# Altium footprint library ControlCircuit_PCB_Library_V1_0.PcbLib: 207 footprints (part 2 of 13)
Each footprint in its own frame and in the unit in brackets; x right, y up, seen from the top. Pads: shape width x height; smd on the part's side, far side on the other; paste and mask are expansions set on the pad; w line width, h text height; cw(c..) or ccw(c..) is an arc to the next point about the centre after c.
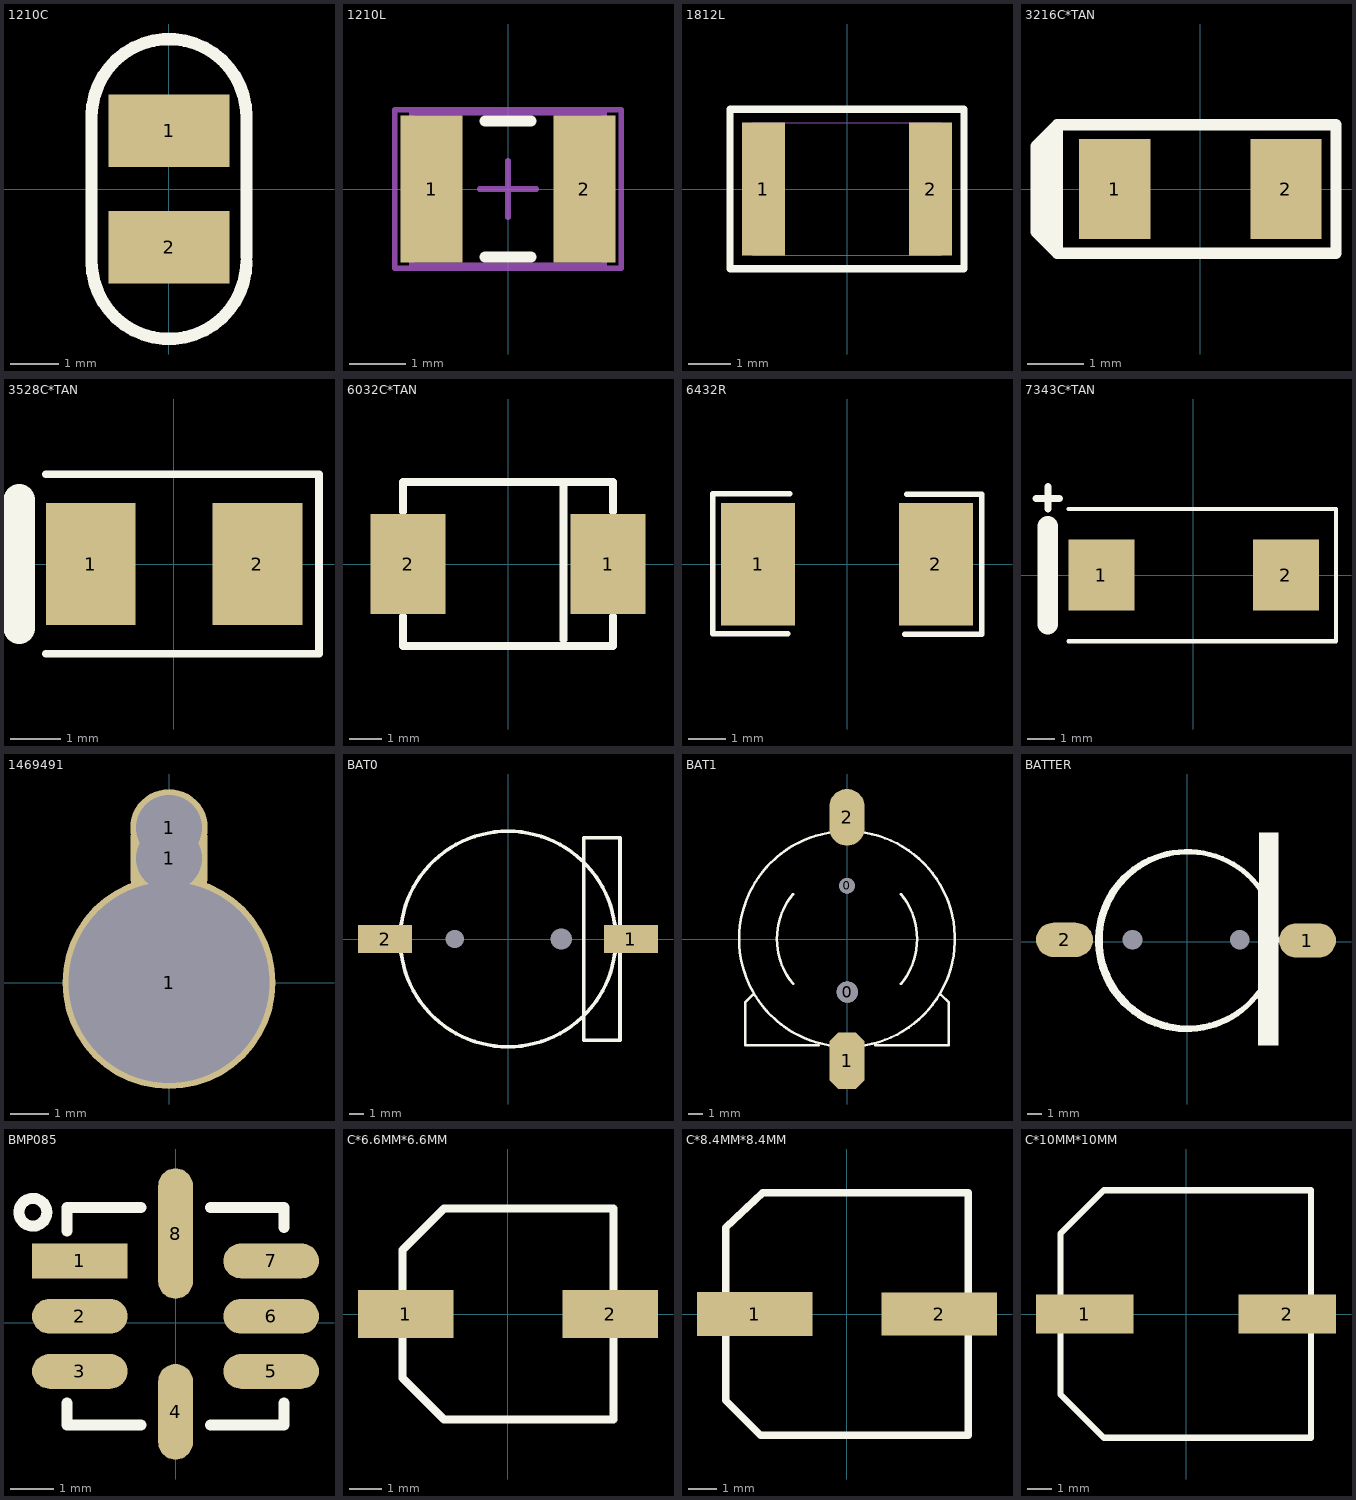
[diagram p1: the footprints below, top view; thin cyan lines are the x and y axes]

## 1210C [mm]
pads (2):
  rect 2.5x1.5 smd: 1(0,1.2) 2(0,-1.2)
Top Overlay:
  lines w0.254: -1.6,1.5 cw(c0,1.5) 1.6,1.5 1.6,-1.4 ; -1.6,1.6 -1.6,-1.5 ccw(c0,-1.5) 1.6,-1.5

## 1210L [mm]
height 2
pads (2):
  rect 1.1x2.6 smd: 1(-1.35,0) 2(1.35,0)
Top Overlay:
  lines w0.2: -0.4,-1.2 0.4,-1.2 ; -0.4,1.2 0.4,1.2
Mechanical 13:
  lines w0.1: -1.7,-1.35 1.7,-1.35 1.7,1.35 -1.7,1.35 -1.7,-1.35
Mechanical 15:
  lines w0.1: -0.5,0 0.5,0 ; 0,-0.5 0,0.5 ; -2,-1.4 2,-1.4 2,1.4 -2,1.4 -2,-1.4
3D body: height 1.5, standoff 0, extent -1.7,-1.35 1.7,1.35

## 1812L [mil]
pads (2):
  rect 40x125 smd: 1(-78.5,0)
  rect 40x125 smd mask+2.76: 2(78.5,0)
Top Overlay:
  lines w7: -110,-75 -110,75 110,75 110,-75 -110,-75
Mechanical 16:
  lines w1: -88.5,-62.5 88.5,-62.5 88.5,62.5 -88.5,62.5 -88.5,-62.5
3D body "1812-vrt.stp": height 125.98, standoff 0, extent -88.58,-63 88.58,62.98
3D body "3_175-1_016-1812.stp": height 0.79, standoff 0, extent -99,-62.5 -59,62.5
3D body "3_175-1_016-1812.stp": height 0.79, standoff 0, extent 58.5,-62.5 98.5,62.5

## 3216C*TAN [mil]
pads (2):
  rect 50x70 smd: 1(-60,0) 2(60,0)
Top Overlay:
  lines w8: -100,-45 95,-45 95,45 -100,45 ; -100,-45 -115,-30 -115,30 -100,45 ; -100,-45 -100,45
  lines w10: -110,-30 -110,30 ; -105,-35 -105,35

## 3528C*TAN [mil]
pads (2):
  rect 70x95 smd: 1(-64.63,0.24) 2(65.37,0.24)
Top Overlay:
  lines w6: -99.63,-69.76 113.37,-69.76 113.37,70.24 -99.63,70.24
  lines w25: -120.63,-49.76 -120.63,50.24

## 6032C*TAN [mil]
pads (2):
  rect 90x120 smd: 1(120,0) 2(-120,0)
Top Overlay:
  lines w10: -125.98,-62.99 -125.98,-98.43 125.98,-98.43 125.98,-62.99 ; -125.98,62.99 -125.98,98.43 125.98,98.43 125.98,62.99 ; 66.54,-90.55 66.54,94.49

## 6432R [mm] "功率电阻"
height 0.6
pads (2):
  rect 2x3.3 smd: 1(-2.4,0) 2(2.4,0)
Top Overlay:
  lines w0.152: -1.597,-1.88 -3.629,-1.88 -3.629,1.898 -1.546,1.898 ; 1.558,-1.887 3.641,-1.887 3.641,1.89 1.609,1.89

## 7343C*TAN [mil]
pads (2):
  rect 95x102 smd: 1(-132.13,0) 2(132.87,0)
Top Overlay:
  lines w6: -179.13,-95 204.87,-95 204.87,95 -179.13,95
  lines w10: -226,110 -192,110 ; -209,95 -209,127
  lines w30: -209.13,-70 -209.13,70

## 1469491 [mm]
pads (3):
  round 5.5 hole 5.2 mask+0.102: 1(0,0.003)
  rrect50% 2x2 hole 1.7 square mask+0.102: 1(0,3.216)
  round 2 hole 1.7 mask+0.102: 1(0,4.003)

## BAT0 [mm]
pads (4):
  rect 3.81x2 smd: 1(8.636,0) 2(-8.636,0)
  round 0 hole 1.5 unplated: 3(3.75,0)
  round 0 hole 1.3 unplated: 4(-3.75,0)
Top Overlay:
  circle w0.254: c0,0 r7.578
  lines w0.254: 5.334,-7.112 5.334,7.112 7.874,7.112 7.874,-7.112 5.334,-7.112

## BAT1 [mm]
pads (4):
  round 1.1 hole 1.1 unplated: 0(-0.012,3.75)
  round 1.5 hole 1.5 unplated: 0(0.012,-3.75)
  oct 2.5x4 smd: 1(-0.012,-8.6)
  oval 2.5x4 smd: 2(-0.012,8.6)
Top Overlay:
  lines w0.178: -6.612,-3.9 -7.212,-4.5 -7.212,-7.5 -2.012,-7.5 ; -3.827,-3.169 cw(c-0.012,0) -3.825,3.172 ; -0.846,-7.574 cw(c-0.012,0) -7.632,0 cw(c-0.012,0) -0.846,7.574 ; 0.821,-7.574 ccw(c-0.012,0) 0.821,7.574 ; 1.987,-7.5 7.187,-7.5 7.187,-4.5 6.612,-3.925 ; 3.797,-3.175 ccw(c-0.012,0) 3.8,3.172

## BATTER [mil]
pads (4):
  oval 159.37x95.75 smd: 1(336,4) 2(-343,6)
  round 40 hole 55: ""(-153,5.8) ""(147,6)
Top Overlay:
  circle w10: c-2,4 r251.03
  circle w10: c3,6 r247.94
  circle w10: c3,6 r243.92
  rectangle: 206,141 249.03,264
  rectangle: 214,126 249.03,145
  rectangle: 223,110 249.03,131
  rectangle: 231,93 249.03,118
  rectangle: 238,75 249.03,102
  rectangle: 234,-254 249,-70
  rectangle: 213,-254 241,-120
  rectangle: 207,-137 220,-134
  rectangle: 226,-126 235,-94
  rectangle: 220,-126 235,-111
  rectangle: 206,-253.97 249.03,264
  rectangle: 197.6,-254 207,159.8
  rectangle: 197.6,-289.2 255,-254
  rectangle: 200,261.6 254,305.8
  rectangle: 254,261.6 255,305.8
  lines w12: 205,148 206,149 206,264 249,264 249.03,263.97 249.03,4 249.03,-253.97 249,-254 207,-254 207,-137

## BMP085 [mm]
pads (8):
  rect 2.2x0.8 smd: 1(-2.2,1.42)
  oval 2.2x0.8 smd: 2(-2.2,0.15) 3(-2.2,-1.12) 5(2.2,-1.12) 6(2.2,0.15) 7(2.2,1.42)
  oval 0.8x2.2 smd: 4(0,-2.05)
  oval 0.8x3 smd: 8(0,2.05)
Top Overlay:
  circle w0.254: c-3.28,2.54 r0.32
  lines w0.254: -2.5,-1.85 -2.5,-2.35 -0.8,-2.35 ; -2.5,2.11 -2.5,2.65 -0.8,2.65 ; 0.8,-2.35 2.5,-2.35 2.5,-1.85 ; 0.8,2.65 2.5,2.65 2.5,2.19

## C*6.6MM*6.6MM [mm]
pads (2):
  rect 3x1.5 smd: 1(-3.2,0) 2(3.2,0)
Top Overlay:
  lines w0.254: -3.3,-2 -2,-3.3 3.3,-3.3 3.3,3.3 -2,3.3 -3.3,2 -3.3,-2

## C*8.4MM*8.4MM [mm]
pads (2):
  rect 4x1.524 smd: 1(-3.2,0)
  rect 4x1.5 smd: 2(3.2,0)
Top Overlay:
  lines w0.254: -4.2,-3 -3,-4.2 4.2,-4.2 4.2,4.2 -2.92,4.2 -4.2,3 -4.2,-3

## C*10MM*10MM [mm]
height 10.2
pads (2):
  rect 4x1.6 smd: 1(-4.161,0) 2(4.161,0)
Top Overlay:
  lines w0.254: -5.161,-3.293 -3.374,-5.08 5.139,-5.08 5.139,5.08 -3.374,5.08 -5.161,3.293 -5.161,-3.293